# Altium integrated library TI Power Management Battery Management.IntLib: 949 symbols (part 41 of 62)
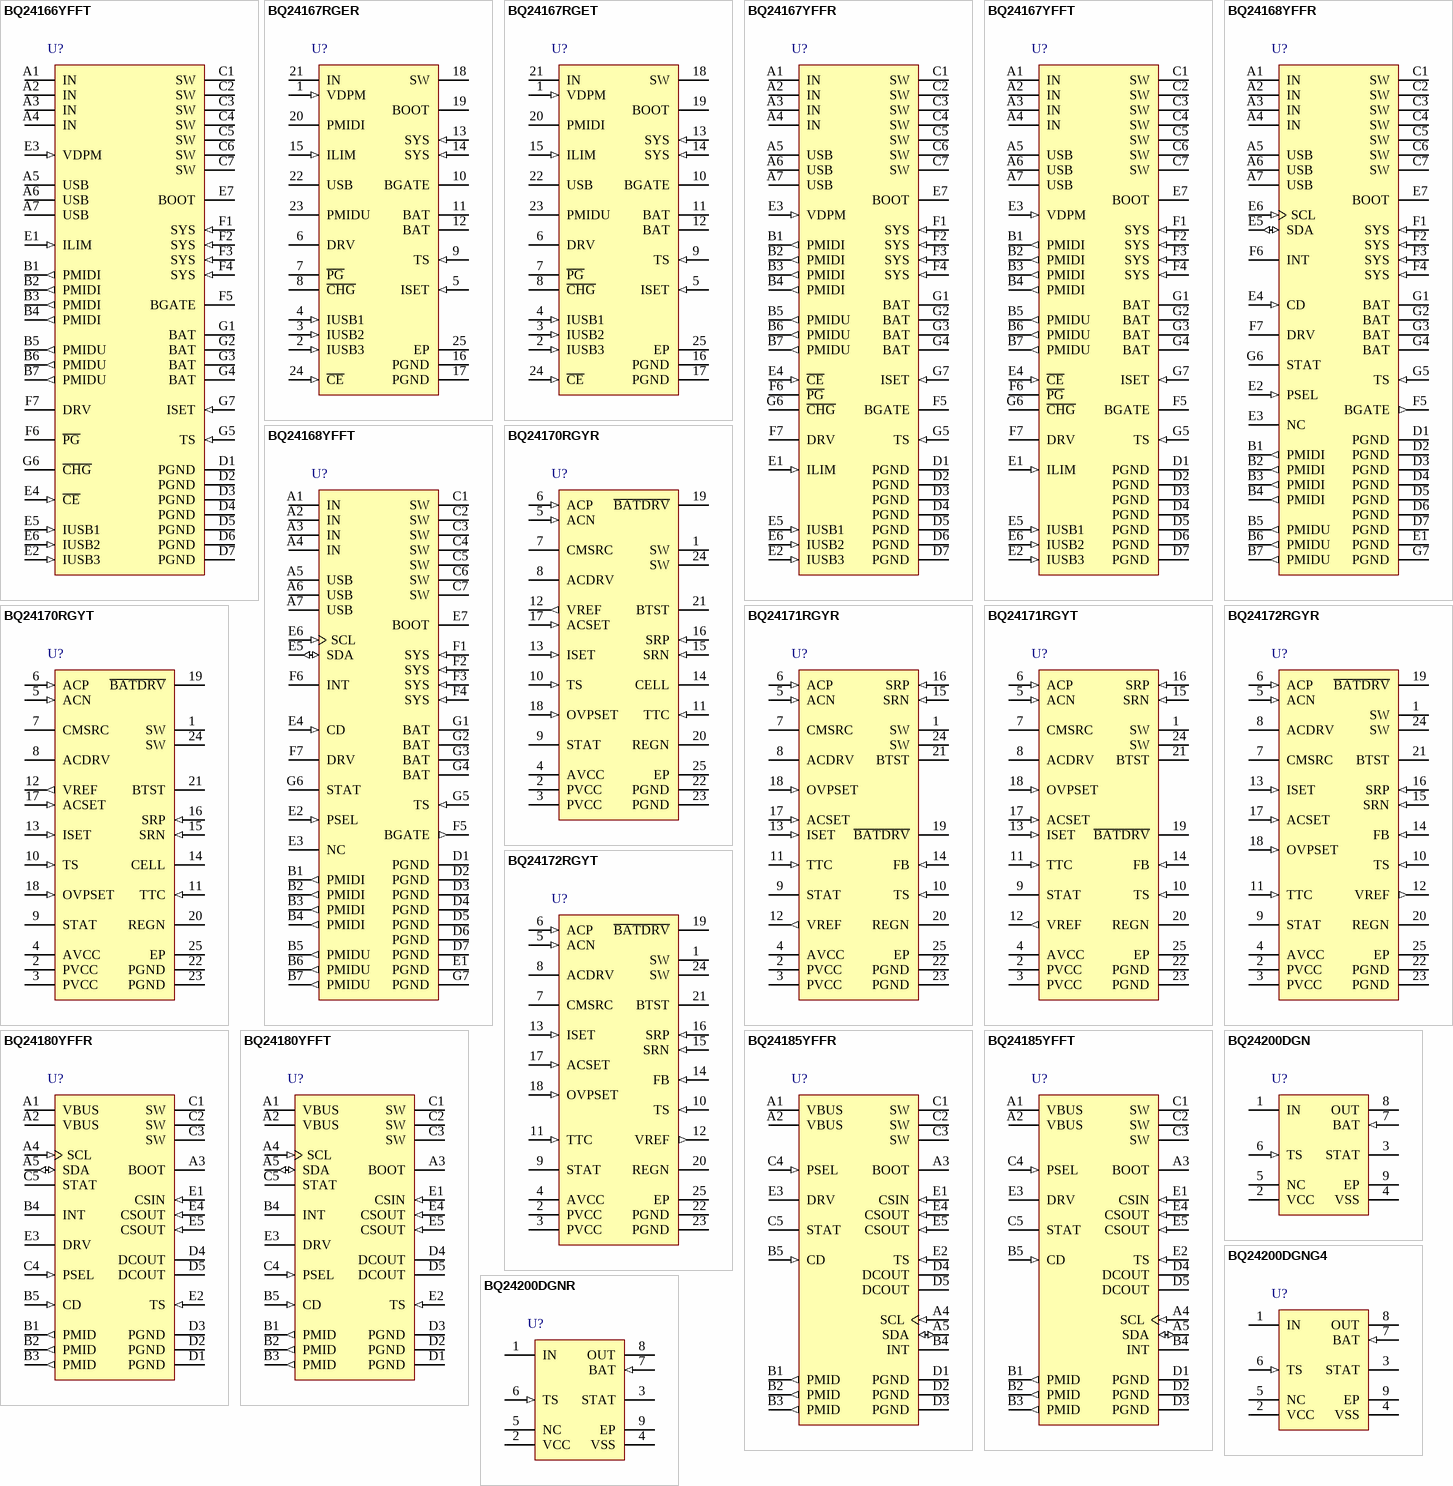
[diagram p74: symbols BQ24166YFFT to BQ24200DGNR]

## BQ24185YFFR
designator U?
Fully Integrated Switch-Mode One-Cell Li-Ion Charger with Full USB Compliance, 4 V, -40 to 85 degC, 25-pin DSBGA (YFF), Green (RoHS & no Sb/Br); PartNumber: BQ24185YFFR; Manufacturer: Texas Instruments; Lead Acid: N; SubFamily: Battery Charge Management; Vin(Min)(V): 4; DatasheetVersion: SLUSA43; PackageVersion: revAE, Nov-2011; PackageReference: YFF25-2200X2400DE; PackageDescription: 25-Ball Die-Size Ball Grid Array, 2.2 x 2.4 mm Body, 0.4 mm Pitch, Pb-Free; Supplier 1: Digi-Key; Supplier Part Number 1: 296-27956-2-ND; Supplier 2: Digi-Key; Supplier Part Number 2: 296-27956-1-ND; Supplier 3: Digi-Key; Supplier Part Number 3: 296-27956-6-ND; Supplier 4: Newark; Supplier Part Number 4: 27T2630; Supplier 5: Mouser; Supplier Part Number 5: 595-BQ24185YFFR; Eco-Plan: Green (RoHS & no Sb/Br); Li-Ion: N; Li-Polymer: N; NiCd: N; NiMH: N; Over Voltage Protection: N; Mounting Technology: Surface Mount; ComponentLink1Description: Datasheet; ComponentLink1URL: http://www.ti.com/general/docs/lit/getliterature.tsp?genericPartNumber=BQ24185&fileType=pdf
footprint YFF25-2200X2400DE (BGA, 25-Leads, Body 2.2x2.4mm, Pitch 0.4mm)
pins: A1 VBUS (power) "Charger Input Voltage. Connect to an input supply up to 16V. Bypass VBUS to PGND with a 1µF ceramic capacitor. During boost mode, VBUS is regulated to 5V at up to 300mA to power USB OTG peripherals.", A2 VBUS (power) "Charger Input Voltage. Connect to an input supply up to 16V. Bypass VBUS to PGND with a 1µF ceramic capacitor. During boost mode, VBUS is regulated to 5V at up to 300mA to power USB OTG peripherals.", A3 BOOT (power) "High-Side MOSFET Gate Driver Supply. Connect a 10nF ceramic capacitor (voltage rating above 10V) from BOOT pin to SW pin to supply the gate drive for the high side MOSFET.", A4 SCL (in) "I2C interface clock. Connect SCL to the logic rail through a 10kO resistor", A5 SDA (io) "I2C interface data. Connect SCL to the logic rail through a 10kO resistor", B1 PMID (out) "Connection Point Between Reverse Blocking MOSFET and High-Side Switching MOSFET. Bypass PMID to PGND with a minimum of 3.3µF ceramic capacitor. Use caution when connecting an external load to PMID. The PMID output is not (See Datasheet)", B2 PMID (out) "Connection Point Between Reverse Blocking MOSFET and High-Side Switching MOSFET. Bypass PMID to PGND with a minimum of 3.3µF ceramic capacitor. Use caution when connecting an external load to PMID. The PMID output is not (See Datasheet)", B3 PMID (out) "Connection Point Between Reverse Blocking MOSFET and High-Side Switching MOSFET. Bypass PMID to PGND with a minimum of 3.3µF ceramic capacitor. Use caution when connecting an external load to PMID. The PMID output is not (See Datasheet)", B4 INT (hiz) "Host Interface Status Output. INT is a low voltage open drain output used to signal charge status to the host processor. INT is pulled low during charging. When charging is complete or when charging is disabled, INT is high (See Datasheet)", B5 CD (in) "Hardware Disable Input. Connect CD to GND to enable charge. Drive CD high to disable charge and place the bq24185 into high impedance mode. Toggling CD resets the safety timer when in DEFAULT mode, but does not reset the (See Datasheet)", C1 SW (power) "Inductor Connection. Connect the switched side of the inductor to SW.", C2 SW (power) "Inductor Connection. Connect the switched side of the inductor to SW.", C3 SW (power) "Inductor Connection. Connect the switched side of the inductor to SW.", C4 PSEL (in) "USB Source Detection Input. Drive PSEL high to indicate a USB source is connected to the input and the PC mode default values should be used. When PSEL is high, the IC starts up with a 100mA input current limit. Drive PSEL (See Datasheet)", C5 STAT (hiz) "Status Output. STAT is an open drain output that is pulled low during charging. When charging is complete or when charging is disabled, STAT is high impedance. When a fault occurs, a 128µs pulse is sent out as an interrupt (See Datasheet)", D1 PGND (power) "Power ground. Connect to the ground plane for the circuit.", D2 PGND (power) "Power ground. Connect to the ground plane for the circuit.", D3 PGND (power) "Power ground. Connect to the ground plane for the circuit.", D4 DCOUT (power) "Accessory Power Output. DCOUT is connected to the battery through an internal pass FET. When enabled through I2C, DCOUT is connected to the battery. When disabled, DCOUT is high-impedance. Bypass DCOUT to PGND with at least (See Datasheet)", D5 DCOUT (power) "Accessory Power Output. DCOUT is connected to the battery through an internal pass FET. When enabled through I2C, DCOUT is connected to the battery. When disabled, DCOUT is high-impedance. Bypass DCOUT to PGND with at least (See Datasheet)", E1 CSIN (in) "Charge Current-Sense Input. Battery current is sensed via the voltage drop across an external sense resistor. Bypass CSIN to PGND with a 0.1µF ceramic capacitor.", E2 TS (in) "Battery Pack NTC Monitor. Connect TS to a 4.7kO NTC thermistor. During DEFAULT mode, when VTS >VCOLD or VTS<VHOT charging is suspended. If VHOT < VTS < VWARM charging current is reduced. The faults arereported by the I2C (See Datasheet)", E3 DRV (power) "Gate Drive Supply. DRV is the supply for the gate drive of the internal MOSFETs. Bypass DRV to PGND with a 1µF ceramic capacitor. DRV may be used to drive external loads up to 10mA. DRV is active whenever the input is (See Datasheet)", E4 CSOUT (in) "Battery voltage and Current Sense Input. Connect to the positive terminal of the battery pack. CSOUT is also the supply for the DCOUT output and VBUS during boost mode. Bypass CSOUT to PGND with 1µF ceramic capacitor.", E5 CSOUT (in) "Battery voltage and Current Sense Input. Connect to the positive terminal of the battery pack. CSOUT is also the supply for the DCOUT output and VBUS during boost mode. Bypass CSOUT to PGND with 1µF ceramic capacitor."

## BQ24185YFFT
designator U?
Fully Integrated Switch-Mode One-Cell Li-Ion Charger with Full USB Compliance, 4 V, -40 to 85 degC, 25-pin DSBGA (YFF), Green (RoHS & no Sb/Br); PartNumber: BQ24185YFFT; Manufacturer: Texas Instruments; Lead Acid: N; SubFamily: Battery Charge Management; Vin(Min)(V): 4; DatasheetVersion: SLUSA43; PackageVersion: revAE, Nov-2011; PackageReference: YFF25-2200X2400DE; PackageDescription: 25-Ball Die-Size Ball Grid Array, 2.2 x 2.4 mm Body, 0.4 mm Pitch, Pb-Free; Supplier 1: Digi-Key; Supplier Part Number 1: BQ24185YFFT-ND; Supplier 2: Newark; Supplier Part Number 2: 57T9700; Supplier 3: Mouser; Supplier Part Number 3: 595-BQ24185YFFT; Eco-Plan: Green (RoHS & no Sb/Br); Li-Ion: N; Li-Polymer: N; NiCd: N; NiMH: N; Over Voltage Protection: N; Mounting Technology: Surface Mount; ComponentLink1Description: Datasheet; ComponentLink1URL: http://www.ti.com/general/docs/lit/getliterature.tsp?genericPartNumber=BQ24185&fileType=pdf
footprint YFF25-2200X2400DE (BGA, 25-Leads, Body 2.2x2.4mm, Pitch 0.4mm)
pins: A1 VBUS (power) "Charger Input Voltage. Connect to an input supply up to 16V. Bypass VBUS to PGND with a 1µF ceramic capacitor. During boost mode, VBUS is regulated to 5V at up to 300mA to power USB OTG peripherals.", A2 VBUS (power) "Charger Input Voltage. Connect to an input supply up to 16V. Bypass VBUS to PGND with a 1µF ceramic capacitor. During boost mode, VBUS is regulated to 5V at up to 300mA to power USB OTG peripherals.", A3 BOOT (power) "High-Side MOSFET Gate Driver Supply. Connect a 10nF ceramic capacitor (voltage rating above 10V) from BOOT pin to SW pin to supply the gate drive for the high side MOSFET.", A4 SCL (in) "I2C interface clock. Connect SCL to the logic rail through a 10kO resistor", A5 SDA (io) "I2C interface data. Connect SCL to the logic rail through a 10kO resistor", B1 PMID (out) "Connection Point Between Reverse Blocking MOSFET and High-Side Switching MOSFET. Bypass PMID to PGND with a minimum of 3.3µF ceramic capacitor. Use caution when connecting an external load to PMID. The PMID output is not (See Datasheet)", B2 PMID (out) "Connection Point Between Reverse Blocking MOSFET and High-Side Switching MOSFET. Bypass PMID to PGND with a minimum of 3.3µF ceramic capacitor. Use caution when connecting an external load to PMID. The PMID output is not (See Datasheet)", B3 PMID (out) "Connection Point Between Reverse Blocking MOSFET and High-Side Switching MOSFET. Bypass PMID to PGND with a minimum of 3.3µF ceramic capacitor. Use caution when connecting an external load to PMID. The PMID output is not (See Datasheet)", B4 INT (hiz) "Host Interface Status Output. INT is a low voltage open drain output used to signal charge status to the host processor. INT is pulled low during charging. When charging is complete or when charging is disabled, INT is high (See Datasheet)", B5 CD (in) "Hardware Disable Input. Connect CD to GND to enable charge. Drive CD high to disable charge and place the bq24185 into high impedance mode. Toggling CD resets the safety timer when in DEFAULT mode, but does not reset the (See Datasheet)", C1 SW (power) "Inductor Connection. Connect the switched side of the inductor to SW.", C2 SW (power) "Inductor Connection. Connect the switched side of the inductor to SW.", C3 SW (power) "Inductor Connection. Connect the switched side of the inductor to SW.", C4 PSEL (in) "USB Source Detection Input. Drive PSEL high to indicate a USB source is connected to the input and the PC mode default values should be used. When PSEL is high, the IC starts up with a 100mA input current limit. Drive PSEL (See Datasheet)", C5 STAT (hiz) "Status Output. STAT is an open drain output that is pulled low during charging. When charging is complete or when charging is disabled, STAT is high impedance. When a fault occurs, a 128µs pulse is sent out as an interrupt (See Datasheet)", D1 PGND (power) "Power ground. Connect to the ground plane for the circuit.", D2 PGND (power) "Power ground. Connect to the ground plane for the circuit.", D3 PGND (power) "Power ground. Connect to the ground plane for the circuit.", D4 DCOUT (power) "Accessory Power Output. DCOUT is connected to the battery through an internal pass FET. When enabled through I2C, DCOUT is connected to the battery. When disabled, DCOUT is high-impedance. Bypass DCOUT to PGND with at least (See Datasheet)", D5 DCOUT (power) "Accessory Power Output. DCOUT is connected to the battery through an internal pass FET. When enabled through I2C, DCOUT is connected to the battery. When disabled, DCOUT is high-impedance. Bypass DCOUT to PGND with at least (See Datasheet)", E1 CSIN (in) "Charge Current-Sense Input. Battery current is sensed via the voltage drop across an external sense resistor. Bypass CSIN to PGND with a 0.1µF ceramic capacitor.", E2 TS (in) "Battery Pack NTC Monitor. Connect TS to a 4.7kO NTC thermistor. During DEFAULT mode, when VTS >VCOLD or VTS<VHOT charging is suspended. If VHOT < VTS < VWARM charging current is reduced. The faults arereported by the I2C (See Datasheet)", E3 DRV (power) "Gate Drive Supply. DRV is the supply for the gate drive of the internal MOSFETs. Bypass DRV to PGND with a 1µF ceramic capacitor. DRV may be used to drive external loads up to 10mA. DRV is active whenever the input is (See Datasheet)", E4 CSOUT (in) "Battery voltage and Current Sense Input. Connect to the positive terminal of the battery pack. CSOUT is also the supply for the DCOUT output and VBUS during boost mode. Bypass CSOUT to PGND with 1µF ceramic capacitor.", E5 CSOUT (in) "Battery voltage and Current Sense Input. Connect to the positive terminal of the battery pack. CSOUT is also the supply for the DCOUT output and VBUS during boost mode. Bypass CSOUT to PGND with 1µF ceramic capacitor."

## BQ24200DGN
designator U?
500 mA, 4.2 V Li-Ion Charger for Current-Limited App. with Temp Sense in MSOP-8, 2.8 V, -40 to 85 degC, 8-pin MSOP-PowerPAD (DGN), Green (RoHS & no Sb/Br); PartNumber: BQ24200DGN; Manufacturer: Texas Instruments; Lead Acid: N; Li-Ion: Y; SubFamily: Battery Charge Management; Vin(Min)(V): 2.8; DatasheetVersion: SLUS501C; PackageVersion: revF, May-2011; PackageReference: DGN8-1760X1425TP; PackageDescription: 8-Pin PowerPAD Plastic Small Outline Package 3 x 3 mm Body ,0.65 mm Pitch, Exposed Pad; Supplier 1: Digi-Key; Supplier Part Number 1: 296-12409-5-ND; Supplier 2: Farnell; Supplier Part Number 2: 8407924; Supplier 3: Newark; Supplier Part Number 3: 74C7650; Supplier 4: Mouser; Supplier Part Number 4: 595-BQ24200DGN; Eco-Plan: Green (RoHS & no Sb/Br); Li-Polymer: Y; NiCd: N; NiMH: N; Over Voltage Protection: N; Mounting Technology: Surface Mount; Code_JEDEC: MO-187-AA-T; ComponentLink1Description: Datasheet; ComponentLink1URL: http://www.ti.com/general/docs/lit/getliterature.tsp?genericPartNumber=BQ24200&fileType=pdf
footprint DGN8-1760X1425TP_N (TSOP, 8-Leads, Body 3x3mm, Pitch 0.65mm, Thermal Pad 1.89x1.57mm, IPC Medium Density)
footprint DGN8-1760X1425TP_L (TSOP, 8-Leads, Body 3x3mm, Pitch 0.65mm, Thermal Pad 1.89x1.57mm, IPC High Density)
footprint DGN8-1760X1425TP_M (TSOP, 8-Leads, Body 3x3mm, Pitch 0.65mm, Thermal Pad 1.89x1.57mm, IPC Low Density)
pins: 1 IN (power) "Charge input voltage", 2 VCC (power) "VCC input", 3 STAT (hiz) "Charge status output", 4 VSS (power) "Ground input", 5 NC "No connection. Must be left floating", 6 TS (in) "Temperature sense input", 7 BAT (in) "Battery voltage sense input", 8 OUT (power) "Charge current output", 9 EP (power) "Exposed Pad"

## BQ24200DGNG4
designator U?
500 mA, 4.2 V Li-Ion Charger for Current-Limited App. with Temp Sense in MSOP-8, 2.8 V, -40 to 85 degC, 8-pin MSOP-PowerPAD (DGN), Green (RoHS & no Sb/Br); PartNumber: BQ24200DGNG4; Manufacturer: Texas Instruments; Lead Acid: N; Li-Ion: Y; SubFamily: Battery Charge Management; Vin(Min)(V): 2.8; DatasheetVersion: SLUS501C; PackageVersion: revF, May-2011; PackageReference: DGN8-1760X1425TP; PackageDescription: 8-Pin PowerPAD Plastic Small Outline Package 3 x 3 mm Body ,0.65 mm Pitch, Exposed Pad; Supplier 1: Digi-Key; Supplier Part Number 1: BQ24200DGNG4-ND; Supplier 2: Newark; Supplier Part Number 2: 24K4392; Supplier 3: Mouser; Supplier Part Number 3: 595-BQ24200DGNG4; Eco-Plan: Green (RoHS & no Sb/Br); Li-Polymer: Y; NiCd: N; NiMH: N; Over Voltage Protection: N; Mounting Technology: Surface Mount; Code_JEDEC: MO-187-AA-T; ComponentLink1Description: Datasheet; ComponentLink1URL: http://www.ti.com/general/docs/lit/getliterature.tsp?genericPartNumber=BQ24200&fileType=pdf
footprint DGN8-1760X1425TP_N (TSOP, 8-Leads, Body 3x3mm, Pitch 0.65mm, Thermal Pad 1.89x1.57mm, IPC Medium Density)
footprint DGN8-1760X1425TP_L (TSOP, 8-Leads, Body 3x3mm, Pitch 0.65mm, Thermal Pad 1.89x1.57mm, IPC High Density)
footprint DGN8-1760X1425TP_M (TSOP, 8-Leads, Body 3x3mm, Pitch 0.65mm, Thermal Pad 1.89x1.57mm, IPC Low Density)
pins: 1 IN (power) "Charge input voltage", 2 VCC (power) "VCC input", 3 STAT (hiz) "Charge status output", 4 VSS (power) "Ground input", 5 NC "No connection. Must be left floating", 6 TS (in) "Temperature sense input", 7 BAT (in) "Battery voltage sense input", 8 OUT (power) "Charge current output", 9 EP (power) "Exposed Pad"

## BQ24200DGNR
designator U?
500 mA, 4.2 V Li-Ion Charger for Current-Limited App. with Temp Sense in MSOP-8, 2.8 V, -40 to 85 degC, 8-pin MSOP-PowerPAD (DGN), Green (RoHS & no Sb/Br); PartNumber: BQ24200DGNR; Manufacturer: Texas Instruments; Lead Acid: N; Li-Ion: Y; SubFamily: Battery Charge Management; Vin(Min)(V): 2.8; DatasheetVersion: SLUS501C; PackageVersion: revF, May-2011; PackageReference: DGN8-1760X1425TP; PackageDescription: 8-Pin PowerPAD Plastic Small Outline Package 3 x 3 mm Body ,0.65 mm Pitch, Exposed Pad; Supplier 1: Digi-Key; Supplier Part Number 1: BQ24200DGNR-ND; Supplier 2: Newark; Supplier Part Number 2: 74C7651; Supplier 3: Mouser; Supplier Part Number 3: 595-BQ24200DGNR; Eco-Plan: Green (RoHS & no Sb/Br); Li-Polymer: Y; NiCd: N; NiMH: N; Over Voltage Protection: N; Mounting Technology: Surface Mount; Code_JEDEC: MO-187-AA-T; ComponentLink1Description: Datasheet; ComponentLink1URL: http://www.ti.com/general/docs/lit/getliterature.tsp?genericPartNumber=BQ24200&fileType=pdf
footprint DGN8-1760X1425TP_N (TSOP, 8-Leads, Body 3x3mm, Pitch 0.65mm, Thermal Pad 1.89x1.57mm, IPC Medium Density)
footprint DGN8-1760X1425TP_L (TSOP, 8-Leads, Body 3x3mm, Pitch 0.65mm, Thermal Pad 1.89x1.57mm, IPC High Density)
footprint DGN8-1760X1425TP_M (TSOP, 8-Leads, Body 3x3mm, Pitch 0.65mm, Thermal Pad 1.89x1.57mm, IPC Low Density)
pins: 1 IN (power) "Charge input voltage", 2 VCC (power) "VCC input", 3 STAT (hiz) "Charge status output", 4 VSS (power) "Ground input", 5 NC "No connection. Must be left floating", 6 TS (in) "Temperature sense input", 7 BAT (in) "Battery voltage sense input", 8 OUT (power) "Charge current output", 9 EP (power) "Exposed Pad"

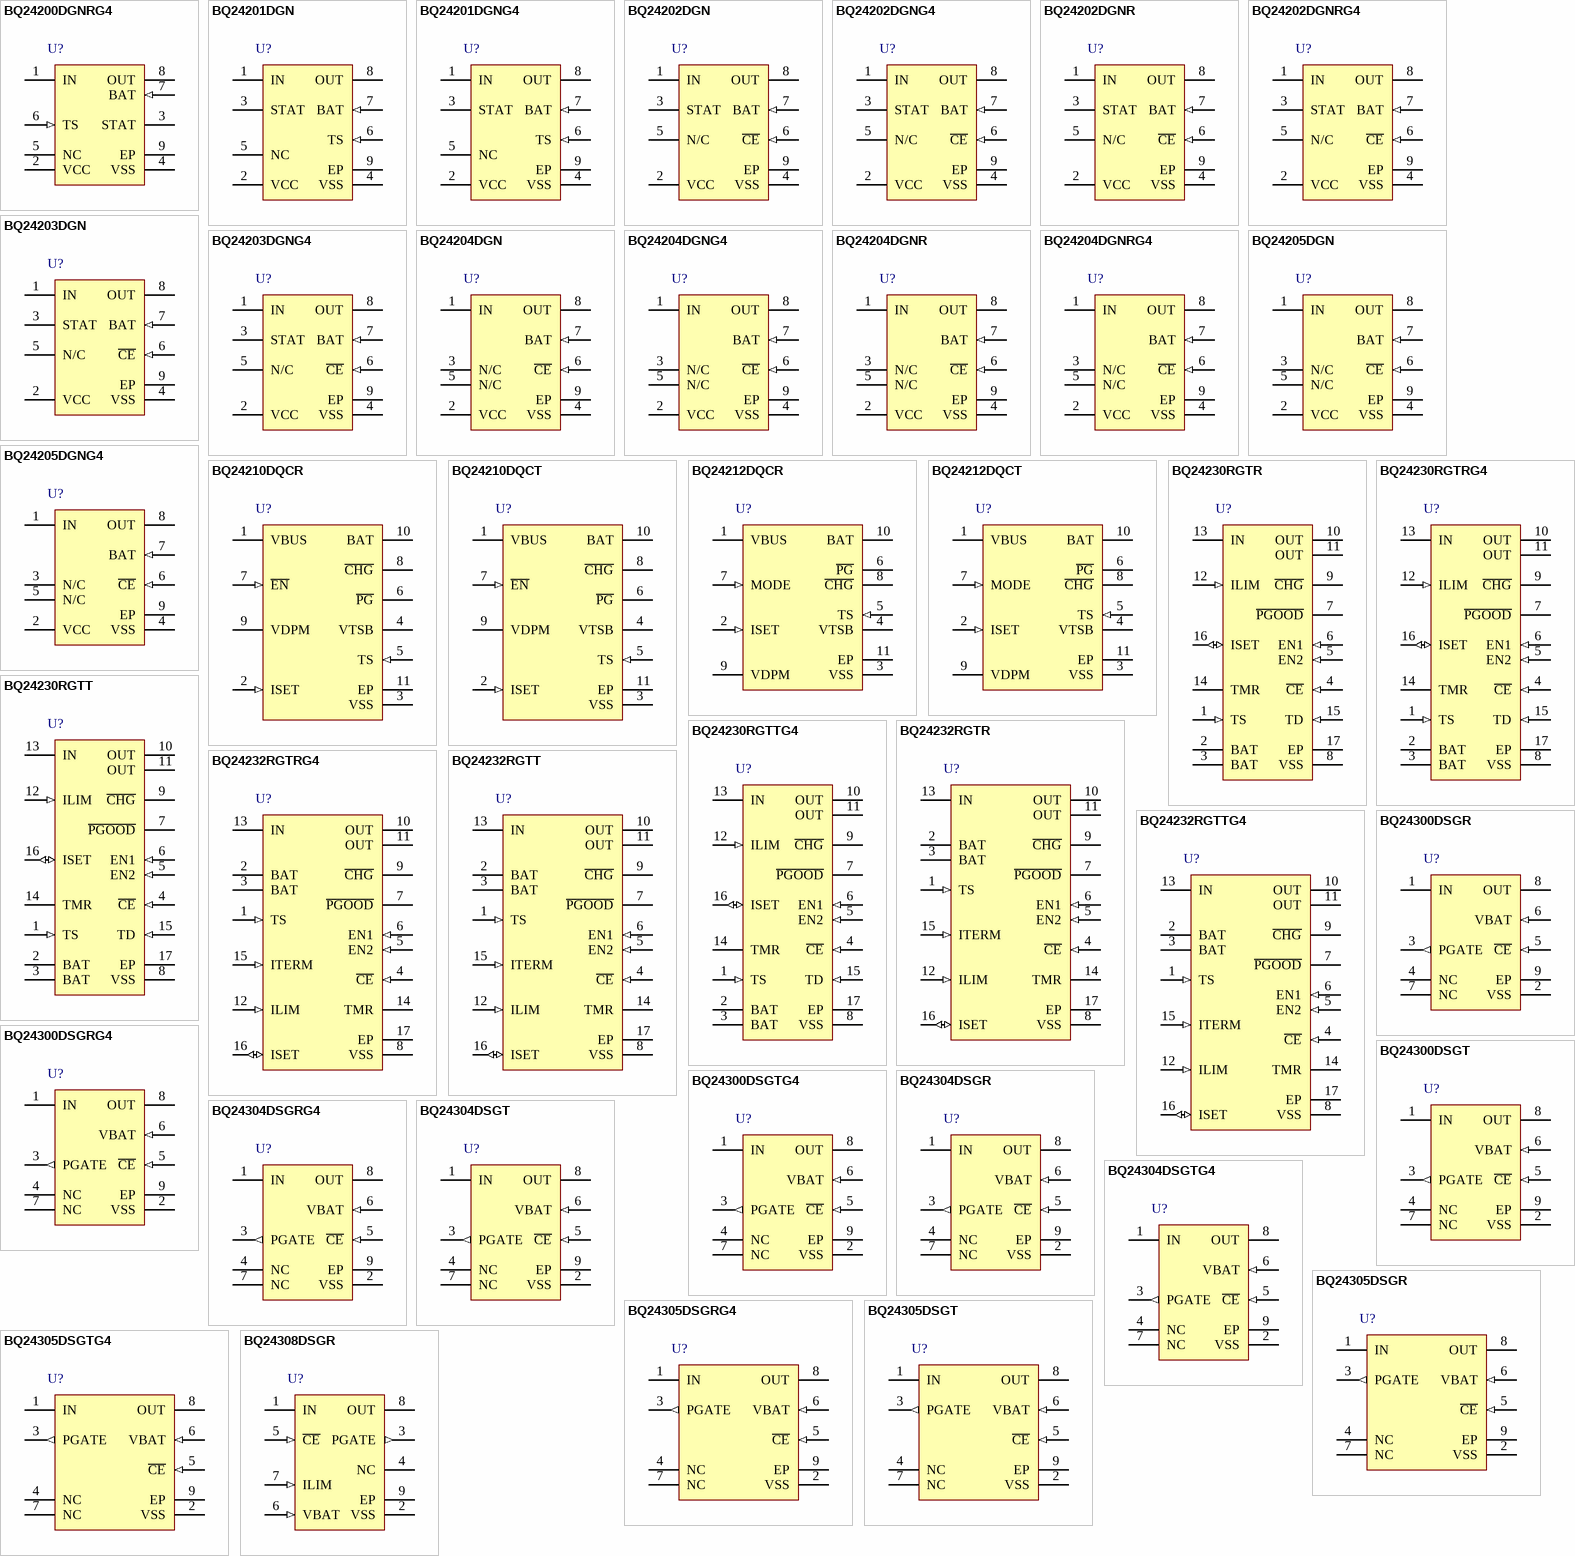
[diagram p22: symbols BQ24200DGNRG4 to BQ24308DSGR]

## BQ24200DGNRG4
designator U?
500 mA, 4.2 V Li-Ion Charger for Current-Limited App. with Temp Sense in MSOP-8, 2.8 V, -40 to 85 degC, 8-pin MSOP-PowerPAD (DGN), Green (RoHS & no Sb/Br); PartNumber: BQ24200DGNRG4; Manufacturer: Texas Instruments; Lead Acid: N; Li-Ion: Y; SubFamily: Battery Charge Management; Vin(Min)(V): 2.8; DatasheetVersion: SLUS501C; PackageVersion: revF, May-2011; PackageReference: DGN8-1760X1425TP; PackageDescription: 8-Pin PowerPAD Plastic Small Outline Package 3 x 3 mm Body ,0.65 mm Pitch, Exposed Pad; Supplier 1: Digi-Key; Supplier Part Number 1: BQ24200DGNRG4-ND; Supplier 2: Newark; Supplier Part Number 2: 71J3426; Supplier 3: Mouser; Supplier Part Number 3: 595-BQ24200DGNRG4; Eco-Plan: Green (RoHS & no Sb/Br); Li-Polymer: Y; NiCd: N; NiMH: N; Over Voltage Protection: N; Mounting Technology: Surface Mount; Code_JEDEC: MO-187-AA-T; ComponentLink1Description: Datasheet; ComponentLink1URL: http://www.ti.com/general/docs/lit/getliterature.tsp?genericPartNumber=BQ24200&fileType=pdf
footprint DGN8-1760X1425TP_N (TSOP, 8-Leads, Body 3x3mm, Pitch 0.65mm, Thermal Pad 1.89x1.57mm, IPC Medium Density)
footprint DGN8-1760X1425TP_L (TSOP, 8-Leads, Body 3x3mm, Pitch 0.65mm, Thermal Pad 1.89x1.57mm, IPC High Density)
footprint DGN8-1760X1425TP_M (TSOP, 8-Leads, Body 3x3mm, Pitch 0.65mm, Thermal Pad 1.89x1.57mm, IPC Low Density)
pins: 1 IN (power) "Charge input voltage", 2 VCC (power) "VCC input", 3 STAT (hiz) "Charge status output", 4 VSS (power) "Ground input", 5 NC "No connection. Must be left floating", 6 TS (in) "Temperature sense input", 7 BAT (in) "Battery voltage sense input", 8 OUT (power) "Charge current output", 9 EP (power) "Exposed Pad"

## BQ24201DGN
designator U?
500 mA, 4.1 V Li-Ion Charger for Current-Limited App. with Temp Sense in MSOP-8, 2.8 V, -40 to 85 degC, 8-pin MSOP-PowerPAD (DGN), Green (RoHS & no Sb/Br); PartNumber: BQ24201DGN; Manufacturer: Texas Instruments; Lead Acid: N; Li-Ion: Y; SubFamily: Battery Charge Management; Vin(Min)(V): 2.8; DatasheetVersion: SLUS501C; PackageVersion: revF, May-2011; PackageReference: DGN8-1760X1425TP; PackageDescription: 8-Pin PowerPAD Plastic Small Outline Package 3 x 3 mm Body ,0.65 mm Pitch, Exposed Pad; Supplier 1: Digi-Key; Supplier Part Number 1: 296-12410-5-ND; Supplier 2: Newark; Supplier Part Number 2: 74C7653; Supplier 3: Mouser; Supplier Part Number 3: 595-BQ24201DGN; Eco-Plan: Green (RoHS & no Sb/Br); Li-Polymer: Y; NiCd: N; NiMH: N; Over Voltage Protection: N; Mounting Technology: Surface Mount; Code_JEDEC: MO-187-AA-T; ComponentLink1Description: Datasheet; ComponentLink1URL: http://www.ti.com/general/docs/lit/getliterature.tsp?genericPartNumber=BQ24201&fileType=pdf
footprint DGN8-1760X1425TP_N (TSOP, 8-Leads, Body 3x3mm, Pitch 0.65mm, Thermal Pad 1.89x1.57mm, IPC Medium Density)
footprint DGN8-1760X1425TP_L (TSOP, 8-Leads, Body 3x3mm, Pitch 0.65mm, Thermal Pad 1.89x1.57mm, IPC High Density)
footprint DGN8-1760X1425TP_M (TSOP, 8-Leads, Body 3x3mm, Pitch 0.65mm, Thermal Pad 1.89x1.57mm, IPC Low Density)
pins: 1 IN (power) "Charge input voltage", 2 VCC (power) "VCC input", 3 STAT (hiz) "Charge status output", 4 VSS (power) "Ground input", 5 NC "No connection. Must be left floating", 6 TS (in) "Temperature sense input", 7 BAT (in) "Battery voltage sense input", 8 OUT (power) "Charge current output", 9 EP "Exposed pad"

## BQ24201DGNG4
designator U?
500 mA, 4.1 V Li-Ion Charger for Current-Limited App. with Temp Sense in MSOP-8, 2.8 V, -40 to 85 degC, 8-pin MSOP-PowerPAD (DGN), Green (RoHS & no Sb/Br); PartNumber: BQ24201DGNG4; Manufacturer: Texas Instruments; Lead Acid: N; Li-Ion: Y; SubFamily: Battery Charge Management; Vin(Min)(V): 2.8; DatasheetVersion: SLUS501C; PackageVersion: revF, May-2011; PackageReference: DGN8-1760X1425TP; PackageDescription: 8-Pin PowerPAD Plastic Small Outline Package 3 x 3 mm Body ,0.65 mm Pitch, Exposed Pad; Supplier 1: Digi-Key; Supplier Part Number 1: BQ24201DGNG4-ND; Supplier 2: Newark; Supplier Part Number 2: 99K1810; Supplier 3: Mouser; Supplier Part Number 3: 595-BQ24201DGNG4; Eco-Plan: Green (RoHS & no Sb/Br); Li-Polymer: Y; NiCd: N; NiMH: N; Over Voltage Protection: N; Mounting Technology: Surface Mount; Code_JEDEC: MO-187-AA-T; ComponentLink1Description: Datasheet; ComponentLink1URL: http://www.ti.com/general/docs/lit/getliterature.tsp?genericPartNumber=BQ24201&fileType=pdf
footprint DGN8-1760X1425TP_N (TSOP, 8-Leads, Body 3x3mm, Pitch 0.65mm, Thermal Pad 1.89x1.57mm, IPC Medium Density)
footprint DGN8-1760X1425TP_L (TSOP, 8-Leads, Body 3x3mm, Pitch 0.65mm, Thermal Pad 1.89x1.57mm, IPC High Density)
footprint DGN8-1760X1425TP_M (TSOP, 8-Leads, Body 3x3mm, Pitch 0.65mm, Thermal Pad 1.89x1.57mm, IPC Low Density)
pins: 1 IN (power) "Charge input voltage", 2 VCC (power) "VCC input", 3 STAT (hiz) "Charge status output", 4 VSS (power) "Ground input", 5 NC "No connection. Must be left floating", 6 TS (in) "Temperature sense input", 7 BAT (in) "Battery voltage sense input", 8 OUT (power) "Charge current output", 9 EP "Exposed pad"

## BQ24202DGN
designator U?
500 mA, 4.2 V Li-Ion Charger for Current-Limited App. with Charge Status in MSOP-8, 2.8 V, -40 to 85 degC, 8-pin MSOP-PowerPAD (DGN), Green (RoHS & no Sb/Br); PartNumber: BQ24202DGN; Manufacturer: Texas Instruments; Lead Acid: N; Li-Ion: Y; SubFamily: Battery Charge Management; Vin(Min)(V): 2.8; DatasheetVersion: SLUS501C; PackageVersion: revF, May-2011; PackageReference: DGN8-1760X1425TP; PackageDescription: 8-Pin PowerPAD Plastic Small Outline Package 3 x 3 mm Body ,0.65 mm Pitch, Exposed Pad; Supplier 1: Digi-Key; Supplier Part Number 1: 296-12411-5-ND; Supplier 2: Farnell; Supplier Part Number 2: 8407932; Supplier 3: Newark; Supplier Part Number 3: 74C7655; Supplier 4: Mouser; Supplier Part Number 4: 595-BQ24202DGN; Eco-Plan: Green (RoHS & no Sb/Br); Li-Polymer: Y; NiCd: N; NiMH: N; Over Voltage Protection: N; Mounting Technology: Surface Mount; Code_JEDEC: MO-187-AA-T; ComponentLink1Description: Datasheet; ComponentLink1URL: http://www.ti.com/general/docs/lit/getliterature.tsp?genericPartNumber=BQ24202&fileType=pdf
footprint DGN8-1760X1425TP_N (TSOP, 8-Leads, Body 3x3mm, Pitch 0.65mm, Thermal Pad 1.89x1.57mm, IPC Medium Density)
footprint DGN8-1760X1425TP_L (TSOP, 8-Leads, Body 3x3mm, Pitch 0.65mm, Thermal Pad 1.89x1.57mm, IPC High Density)
footprint DGN8-1760X1425TP_M (TSOP, 8-Leads, Body 3x3mm, Pitch 0.65mm, Thermal Pad 1.89x1.57mm, IPC Low Density)
pins: 1 IN (power) "Charge input voltage", 2 VCC (power) "VCC input", 3 STAT (hiz) "Charge status output", 4 VSS (power) "Ground input", 5 N/C "No connection. Must be left floating", 6 ~{CE} (in) "Charge enable input (active low)", 7 BAT (in) "Battery voltage sense input", 8 OUT (power) "Charge current output", 9 EP "Exposed pad"

## BQ24202DGNG4
designator U?
500 mA, 4.2 V Li-Ion Charger for Current-Limited App. with Charge Status in MSOP-8, 2.8 V, -40 to 85 degC, 8-pin MSOP-PowerPAD (DGN), Green (RoHS & no Sb/Br); PartNumber: BQ24202DGNG4; Manufacturer: Texas Instruments; Lead Acid: N; Li-Ion: Y; SubFamily: Battery Charge Management; Vin(Min)(V): 2.8; DatasheetVersion: SLUS501C; PackageVersion: revF, May-2011; PackageReference: DGN8-1760X1425TP; PackageDescription: 8-Pin PowerPAD Plastic Small Outline Package 3 x 3 mm Body ,0.65 mm Pitch, Exposed Pad; Supplier 1: Digi-Key; Supplier Part Number 1: BQ24202DGNG4-ND; Supplier 2: Newark; Supplier Part Number 2: 24K4394; Supplier 3: Mouser; Supplier Part Number 3: 595-BQ24202DGNG4; Eco-Plan: Green (RoHS & no Sb/Br); Li-Polymer: Y; NiCd: N; NiMH: N; Over Voltage Protection: N; Mounting Technology: Surface Mount; Code_JEDEC: MO-187-AA-T; ComponentLink1Description: Datasheet; ComponentLink1URL: http://www.ti.com/general/docs/lit/getliterature.tsp?genericPartNumber=BQ24202&fileType=pdf
footprint DGN8-1760X1425TP_N (TSOP, 8-Leads, Body 3x3mm, Pitch 0.65mm, Thermal Pad 1.89x1.57mm, IPC Medium Density)
footprint DGN8-1760X1425TP_L (TSOP, 8-Leads, Body 3x3mm, Pitch 0.65mm, Thermal Pad 1.89x1.57mm, IPC High Density)
footprint DGN8-1760X1425TP_M (TSOP, 8-Leads, Body 3x3mm, Pitch 0.65mm, Thermal Pad 1.89x1.57mm, IPC Low Density)
pins: 1 IN (power) "Charge input voltage", 2 VCC (power) "VCC input", 3 STAT (hiz) "Charge status output", 4 VSS (power) "Ground input", 5 N/C "No connection. Must be left floating", 6 ~{CE} (in) "Charge enable input (active low)", 7 BAT (in) "Battery voltage sense input", 8 OUT (power) "Charge current output", 9 EP "Exposed pad"

## BQ24202DGNR
designator U?
500 mA, 4.2 V Li-Ion Charger for Current-Limited App. with Charge Status in MSOP-8, 2.8 V, -40 to 85 degC, 8-pin MSOP-PowerPAD (DGN), Green (RoHS & no Sb/Br); PartNumber: BQ24202DGNR; Manufacturer: Texas Instruments; Lead Acid: N; Li-Ion: Y; SubFamily: Battery Charge Management; Vin(Min)(V): 2.8; DatasheetVersion: SLUS501C; PackageVersion: revF, May-2011; PackageReference: DGN8-1760X1425TP; PackageDescription: 8-Pin PowerPAD Plastic Small Outline Package 3 x 3 mm Body ,0.65 mm Pitch, Exposed Pad; Supplier 1: Digi-Key; Supplier Part Number 1: BQ24202DGNR-ND; Supplier 2: Newark; Supplier Part Number 2: 74C7656; Supplier 3: Mouser; Supplier Part Number 3: 595-BQ24202DGNR; Eco-Plan: Green (RoHS & no Sb/Br); Li-Polymer: Y; NiCd: N; NiMH: N; Over Voltage Protection: N; Mounting Technology: Surface Mount; Code_JEDEC: MO-187-AA-T; ComponentLink1Description: Datasheet; ComponentLink1URL: http://www.ti.com/general/docs/lit/getliterature.tsp?genericPartNumber=BQ24202&fileType=pdf
footprint DGN8-1760X1425TP_N (TSOP, 8-Leads, Body 3x3mm, Pitch 0.65mm, Thermal Pad 1.89x1.57mm, IPC Medium Density)
footprint DGN8-1760X1425TP_L (TSOP, 8-Leads, Body 3x3mm, Pitch 0.65mm, Thermal Pad 1.89x1.57mm, IPC High Density)
footprint DGN8-1760X1425TP_M (TSOP, 8-Leads, Body 3x3mm, Pitch 0.65mm, Thermal Pad 1.89x1.57mm, IPC Low Density)
pins: 1 IN (power) "Charge input voltage", 2 VCC (power) "VCC input", 3 STAT (hiz) "Charge status output", 4 VSS (power) "Ground input", 5 N/C "No connection. Must be left floating", 6 ~{CE} (in) "Charge enable input (active low)", 7 BAT (in) "Battery voltage sense input", 8 OUT (power) "Charge current output", 9 EP "Exposed pad"

## BQ24202DGNRG4
designator U?
500 mA, 4.2 V Li-Ion Charger for Current-Limited App. with Charge Status in MSOP-8, 2.8 V, -40 to 85 degC, 8-pin MSOP-PowerPAD (DGN), Green (RoHS & no Sb/Br); PartNumber: BQ24202DGNRG4; Manufacturer: Texas Instruments; Lead Acid: N; Li-Ion: Y; SubFamily: Battery Charge Management; Vin(Min)(V): 2.8; DatasheetVersion: SLUS501C; PackageVersion: revF, May-2011; PackageReference: DGN8-1760X1425TP; PackageDescription: 8-Pin PowerPAD Plastic Small Outline Package 3 x 3 mm Body ,0.65 mm Pitch, Exposed Pad; Supplier 1: Digi-Key; Supplier Part Number 1: BQ24202DGNRG4-ND; Supplier 2: Newark; Supplier Part Number 2: 21M9459; Supplier 3: Mouser; Supplier Part Number 3: 595-BQ24202DGNRG4; Eco-Plan: Green (RoHS & no Sb/Br); Li-Polymer: Y; NiCd: N; NiMH: N; Over Voltage Protection: N; Mounting Technology: Surface Mount; Code_JEDEC: MO-187-AA-T; ComponentLink1Description: Datasheet; ComponentLink1URL: http://www.ti.com/general/docs/lit/getliterature.tsp?genericPartNumber=BQ24202&fileType=pdf
footprint DGN8-1760X1425TP_N (TSOP, 8-Leads, Body 3x3mm, Pitch 0.65mm, Thermal Pad 1.89x1.57mm, IPC Medium Density)
footprint DGN8-1760X1425TP_L (TSOP, 8-Leads, Body 3x3mm, Pitch 0.65mm, Thermal Pad 1.89x1.57mm, IPC High Density)
footprint DGN8-1760X1425TP_M (TSOP, 8-Leads, Body 3x3mm, Pitch 0.65mm, Thermal Pad 1.89x1.57mm, IPC Low Density)
pins: 1 IN (power) "Charge input voltage", 2 VCC (power) "VCC input", 3 STAT (hiz) "Charge status output", 4 VSS (power) "Ground input", 5 N/C "No connection. Must be left floating", 6 ~{CE} (in) "Charge enable input (active low)", 7 BAT (in) "Battery voltage sense input", 8 OUT (power) "Charge current output", 9 EP "Exposed pad"

## BQ24203DGN
designator U?
500 mA, 4.1 V Li-Ion Charger for Current-Limited App. with Charge Status in MSOP-8, 2.8 V, -40 to 85 degC, 8-pin MSOP-PowerPAD (DGN), Green (RoHS & no Sb/Br); PartNumber: BQ24203DGN; Manufacturer: Texas Instruments; Lead Acid: N; Li-Ion: Y; SubFamily: Battery Charge Management; Vin(Min)(V): 2.8; DatasheetVersion: SLUS501C; PackageVersion: revF, May-2011; PackageReference: DGN8-1760X1425TP; PackageDescription: 8-Pin PowerPAD Plastic Small Outline Package 3 x 3 mm Body ,0.65 mm Pitch, Exposed Pad; Supplier 1: Digi-Key; Supplier Part Number 1: 296-12412-5-ND; Supplier 2: Farnell; Supplier Part Number 2: 1407133; Supplier 3: Newark; Supplier Part Number 3: 74C7657; Supplier 4: Mouser; Supplier Part Number 4: 595-BQ24203DGN; Eco-Plan: Green (RoHS & no Sb/Br); Li-Polymer: Y; NiCd: N; NiMH: N; Over Voltage Protection: N; Mounting Technology: Surface Mount; Code_JEDEC: MO-187-AA-T; ComponentLink1Description: Datasheet; ComponentLink1URL: http://www.ti.com/general/docs/lit/getliterature.tsp?genericPartNumber=BQ24203&fileType=pdf
footprint DGN8-1760X1425TP_N (TSOP, 8-Leads, Body 3x3mm, Pitch 0.65mm, Thermal Pad 1.89x1.57mm, IPC Medium Density)
footprint DGN8-1760X1425TP_L (TSOP, 8-Leads, Body 3x3mm, Pitch 0.65mm, Thermal Pad 1.89x1.57mm, IPC High Density)
footprint DGN8-1760X1425TP_M (TSOP, 8-Leads, Body 3x3mm, Pitch 0.65mm, Thermal Pad 1.89x1.57mm, IPC Low Density)
pins: 1 IN (power) "Charge input voltage", 2 VCC (power) "VCC input", 3 STAT (hiz) "Charge status output", 4 VSS (power) "Ground input", 5 N/C "No connection. Must be left floating", 6 ~{CE} (in) "Charge enable input (active low)", 7 BAT (in) "Battery voltage sense input", 8 OUT (power) "Charge current output", 9 EP "Exposed pad"

## BQ24203DGNG4
designator U?
500 mA, 4.1 V Li-Ion Charger for Current-Limited App. with Charge Status in MSOP-8, 2.8 V, -40 to 85 degC, 8-pin MSOP-PowerPAD (DGN), Green (RoHS & no Sb/Br); PartNumber: BQ24203DGNG4; Manufacturer: Texas Instruments; Lead Acid: N; Li-Ion: Y; SubFamily: Battery Charge Management; Vin(Min)(V): 2.8; DatasheetVersion: SLUS501C; PackageVersion: revF, May-2011; PackageReference: DGN8-1760X1425TP; PackageDescription: 8-Pin PowerPAD Plastic Small Outline Package 3 x 3 mm Body ,0.65 mm Pitch, Exposed Pad; Supplier 1: Digi-Key; Supplier Part Number 1: BQ24203DGNG4-ND; Supplier 2: Newark; Supplier Part Number 2: 99K1811; Supplier 3: Mouser; Supplier Part Number 3: 595-BQ24203DGNG4; Eco-Plan: Green (RoHS & no Sb/Br); Li-Polymer: Y; NiCd: N; NiMH: N; Over Voltage Protection: N; Mounting Technology: Surface Mount; Code_JEDEC: MO-187-AA-T; ComponentLink1Description: Datasheet; ComponentLink1URL: http://www.ti.com/general/docs/lit/getliterature.tsp?genericPartNumber=BQ24203&fileType=pdf
footprint DGN8-1760X1425TP_N (TSOP, 8-Leads, Body 3x3mm, Pitch 0.65mm, Thermal Pad 1.89x1.57mm, IPC Medium Density)
footprint DGN8-1760X1425TP_L (TSOP, 8-Leads, Body 3x3mm, Pitch 0.65mm, Thermal Pad 1.89x1.57mm, IPC High Density)
footprint DGN8-1760X1425TP_M (TSOP, 8-Leads, Body 3x3mm, Pitch 0.65mm, Thermal Pad 1.89x1.57mm, IPC Low Density)
pins: 1 IN (power) "Charge input voltage", 2 VCC (power) "VCC input", 3 STAT (hiz) "Charge status output", 4 VSS (power) "Ground input", 5 N/C "No connection. Must be left floating", 6 ~{CE} (in) "Charge enable input (active low)", 7 BAT (in) "Battery voltage sense input", 8 OUT (power) "Charge current output", 9 EP "Exposed pad"

## BQ24204DGN
designator U?
500 mA, 4.2 V Li-Ion Charger for Current-Limited App. in MSOP-8, 2.8 V, -40 to 85 degC, 8-pin MSOP-PowerPAD (DGN), Green (RoHS & no Sb/Br); PartNumber: BQ24204DGN; Manufacturer: Texas Instruments; Lead Acid: N; Li-Ion: Y; SubFamily: Battery Charge Management; Vin(Min)(V): 2.8; DatasheetVersion: SLUS501C; PackageVersion: revF, May-2011; PackageReference: DGN8-1760X1425TP; PackageDescription: 8-Pin PowerPAD Plastic Small Outline Package 3 x 3 mm Body ,0.65 mm Pitch, Exposed Pad; Supplier 1: Digi-Key; Supplier Part Number 1: 296-12413-5-ND; Supplier 2: Newark; Supplier Part Number 2: 74C7659; Supplier 3: Mouser; Supplier Part Number 3: 595-BQ24204DGN; Eco-Plan: Green (RoHS & no Sb/Br); Li-Polymer: Y; NiCd: N; NiMH: N; Over Voltage Protection: N; Mounting Technology: Surface Mount; Code_JEDEC: MO-187-AA-T; ComponentLink1Description: Datasheet; ComponentLink1URL: http://www.ti.com/general/docs/lit/getliterature.tsp?genericPartNumber=BQ24204&fileType=pdf
footprint DGN8-1760X1425TP_N (TSOP, 8-Leads, Body 3x3mm, Pitch 0.65mm, Thermal Pad 1.89x1.57mm, IPC Medium Density)
footprint DGN8-1760X1425TP_L (TSOP, 8-Leads, Body 3x3mm, Pitch 0.65mm, Thermal Pad 1.89x1.57mm, IPC High Density)
footprint DGN8-1760X1425TP_M (TSOP, 8-Leads, Body 3x3mm, Pitch 0.65mm, Thermal Pad 1.89x1.57mm, IPC Low Density)
pins: 1 IN (power) "Charge input voltage", 2 VCC (power) "VCC input", 3 N/C "No connection. Must be left floating", 4 VSS (power) "Ground input", 5 N/C "No connection. Must be left floating", 6 ~{CE} (in) "Charge enable input (active low)", 7 BAT (in) "Battery voltage sense input", 8 OUT (power) "Charge current output", 9 EP "Exposed pad"

## BQ24204DGNG4
designator U?
500 mA, 4.2 V Li-Ion Charger for Current-Limited App. in MSOP-8, 2.8 V, -40 to 85 degC, 8-pin MSOP-PowerPAD (DGN), Green (RoHS & no Sb/Br); PartNumber: BQ24204DGNG4; Manufacturer: Texas Instruments; Lead Acid: N; Li-Ion: Y; SubFamily: Battery Charge Management; Vin(Min)(V): 2.8; DatasheetVersion: SLUS501C; PackageVersion: revF, May-2011; PackageReference: DGN8-1760X1425TP; PackageDescription: 8-Pin PowerPAD Plastic Small Outline Package 3 x 3 mm Body ,0.65 mm Pitch, Exposed Pad; Supplier 1: Digi-Key; Supplier Part Number 1: BQ24204DGNG4-ND; Supplier 2: Newark; Supplier Part Number 2: 21M9460; Supplier 3: Mouser; Supplier Part Number 3: 595-BQ24204DGNG4; Eco-Plan: Green (RoHS & no Sb/Br); Li-Polymer: Y; NiCd: N; NiMH: N; Over Voltage Protection: N; Mounting Technology: Surface Mount; Code_JEDEC: MO-187-AA-T; ComponentLink1Description: Datasheet; ComponentLink1URL: http://www.ti.com/general/docs/lit/getliterature.tsp?genericPartNumber=BQ24204&fileType=pdf
footprint DGN8-1760X1425TP_N (TSOP, 8-Leads, Body 3x3mm, Pitch 0.65mm, Thermal Pad 1.89x1.57mm, IPC Medium Density)
footprint DGN8-1760X1425TP_L (TSOP, 8-Leads, Body 3x3mm, Pitch 0.65mm, Thermal Pad 1.89x1.57mm, IPC High Density)
footprint DGN8-1760X1425TP_M (TSOP, 8-Leads, Body 3x3mm, Pitch 0.65mm, Thermal Pad 1.89x1.57mm, IPC Low Density)
pins: 1 IN (power) "Charge input voltage", 2 VCC (power) "VCC input", 3 N/C "No connection. Must be left floating", 4 VSS (power) "Ground input", 5 N/C "No connection. Must be left floating", 6 ~{CE} (in) "Charge enable input (active low)", 7 BAT (in) "Battery voltage sense input", 8 OUT (power) "Charge current output", 9 EP "Exposed pad"

## BQ24204DGNR
designator U?
500 mA, 4.2 V Li-Ion Charger for Current-Limited App. in MSOP-8, 2.8 V, -40 to 85 degC, 8-pin MSOP-PowerPAD (DGN), Green (RoHS & no Sb/Br); PartNumber: BQ24204DGNR; Manufacturer: Texas Instruments; Lead Acid: N; Li-Ion: Y; SubFamily: Battery Charge Management; Vin(Min)(V): 2.8; DatasheetVersion: SLUS501C; PackageVersion: revF, May-2011; PackageReference: DGN8-1760X1425TP; PackageDescription: 8-Pin PowerPAD Plastic Small Outline Package 3 x 3 mm Body ,0.65 mm Pitch, Exposed Pad; Supplier 1: Digi-Key; Supplier Part Number 1: BQ24204DGNR-ND; Supplier 2: Newark; Supplier Part Number 2: 74C7660; Supplier 3: Mouser; Supplier Part Number 3: 595-BQ24204DGNR; Eco-Plan: Green (RoHS & no Sb/Br); Li-Polymer: Y; NiCd: N; NiMH: N; Over Voltage Protection: N; Mounting Technology: Surface Mount; Code_JEDEC: MO-187-AA-T; ComponentLink1Description: Datasheet; ComponentLink1URL: http://www.ti.com/general/docs/lit/getliterature.tsp?genericPartNumber=BQ24204&fileType=pdf
footprint DGN8-1760X1425TP_N (TSOP, 8-Leads, Body 3x3mm, Pitch 0.65mm, Thermal Pad 1.89x1.57mm, IPC Medium Density)
footprint DGN8-1760X1425TP_L (TSOP, 8-Leads, Body 3x3mm, Pitch 0.65mm, Thermal Pad 1.89x1.57mm, IPC High Density)
footprint DGN8-1760X1425TP_M (TSOP, 8-Leads, Body 3x3mm, Pitch 0.65mm, Thermal Pad 1.89x1.57mm, IPC Low Density)
pins: 1 IN (power) "Charge input voltage", 2 VCC (power) "VCC input", 3 N/C "No connection. Must be left floating", 4 VSS (power) "Ground input", 5 N/C "No connection. Must be left floating", 6 ~{CE} (in) "Charge enable input (active low)", 7 BAT (in) "Battery voltage sense input", 8 OUT (power) "Charge current output", 9 EP "Exposed pad"

## BQ24204DGNRG4
designator U?
500 mA, 4.2 V Li-Ion Charger for Current-Limited App. in MSOP-8, 2.8 V, -40 to 85 degC, 8-pin MSOP-PowerPAD (DGN), Green (RoHS & no Sb/Br); PartNumber: BQ24204DGNRG4; Manufacturer: Texas Instruments; Lead Acid: N; Li-Ion: Y; SubFamily: Battery Charge Management; Vin(Min)(V): 2.8; DatasheetVersion: SLUS501C; PackageVersion: revF, May-2011; PackageReference: DGN8-1760X1425TP; PackageDescription: 8-Pin PowerPAD Plastic Small Outline Package 3 x 3 mm Body ,0.65 mm Pitch, Exposed Pad; Supplier 1: Digi-Key; Supplier Part Number 1: BQ24204DGNRG4-ND; Supplier 2: Newark; Supplier Part Number 2: 53K9243; Supplier 3: Mouser; Supplier Part Number 3: 595-BQ24204DGNRG4; Eco-Plan: Green (RoHS & no Sb/Br); Li-Polymer: Y; NiCd: N; NiMH: N; Over Voltage Protection: N; Mounting Technology: Surface Mount; Code_JEDEC: MO-187-AA-T; ComponentLink1Description: Datasheet; ComponentLink1URL: http://www.ti.com/general/docs/lit/getliterature.tsp?genericPartNumber=BQ24204&fileType=pdf
footprint DGN8-1760X1425TP_N (TSOP, 8-Leads, Body 3x3mm, Pitch 0.65mm, Thermal Pad 1.89x1.57mm, IPC Medium Density)
footprint DGN8-1760X1425TP_L (TSOP, 8-Leads, Body 3x3mm, Pitch 0.65mm, Thermal Pad 1.89x1.57mm, IPC High Density)
footprint DGN8-1760X1425TP_M (TSOP, 8-Leads, Body 3x3mm, Pitch 0.65mm, Thermal Pad 1.89x1.57mm, IPC Low Density)
pins: 1 IN (power) "Charge input voltage", 2 VCC (power) "VCC input", 3 N/C "No connection. Must be left floating", 4 VSS (power) "Ground input", 5 N/C "No connection. Must be left floating", 6 ~{CE} (in) "Charge enable input (active low)", 7 BAT (in) "Battery voltage sense input", 8 OUT (power) "Charge current output", 9 EP "Exposed pad"

## BQ24205DGN
designator U?
500 mA, 4.1 V Li-Ion Charger for Current-Limited App. in MSOP-8, 2.8 V, -40 to 85 degC, 8-pin MSOP-PowerPAD (DGN), Green (RoHS & no Sb/Br); PartNumber: BQ24205DGN; Manufacturer: Texas Instruments; Lead Acid: N; Li-Ion: Y; SubFamily: Battery Charge Management; Vin(Min)(V): 2.8; DatasheetVersion: SLUS501C; PackageVersion: revF, May-2011; PackageReference: DGN8-1760X1425TP; PackageDescription: 8-Pin PowerPAD Plastic Small Outline Package 3 x 3 mm Body ,0.65 mm Pitch, Exposed Pad; Supplier 1: Digi-Key; Supplier Part Number 1: 296-12414-5-ND; Supplier 2: Newark; Supplier Part Number 2: 74C7661; Supplier 3: Mouser; Supplier Part Number 3: 595-BQ24205DGN; Eco-Plan: Green (RoHS & no Sb/Br); Li-Polymer: Y; NiCd: N; NiMH: N; Over Voltage Protection: N; Mounting Technology: Surface Mount; Code_JEDEC: MO-187-AA-T; ComponentLink1Description: Datasheet; ComponentLink1URL: http://www.ti.com/general/docs/lit/getliterature.tsp?genericPartNumber=BQ24205&fileType=pdf
footprint DGN8-1760X1425TP_N (TSOP, 8-Leads, Body 3x3mm, Pitch 0.65mm, Thermal Pad 1.89x1.57mm, IPC Medium Density)
footprint DGN8-1760X1425TP_L (TSOP, 8-Leads, Body 3x3mm, Pitch 0.65mm, Thermal Pad 1.89x1.57mm, IPC High Density)
footprint DGN8-1760X1425TP_M (TSOP, 8-Leads, Body 3x3mm, Pitch 0.65mm, Thermal Pad 1.89x1.57mm, IPC Low Density)
pins: 1 IN (power) "Charge input voltage", 2 VCC (power) "VCC input", 3 N/C "No connection. Must be left floating", 4 VSS (power) "Ground input", 5 N/C "No connection. Must be left floating", 6 ~{CE} (in) "Charge enable input (active low)", 7 BAT (in) "Battery voltage sense input", 8 OUT (power) "Charge current output", 9 EP "Exposed pad"

## BQ24205DGNG4
designator U?
500 mA, 4.1 V Li-Ion Charger for Current-Limited App. in MSOP-8, 2.8 V, -40 to 85 degC, 8-pin MSOP-PowerPAD (DGN), Green (RoHS & no Sb/Br); PartNumber: BQ24205DGNG4; Manufacturer: Texas Instruments; Lead Acid: N; Li-Ion: Y; SubFamily: Battery Charge Management; Vin(Min)(V): 2.8; DatasheetVersion: SLUS501C; PackageVersion: revF, May-2011; PackageReference: DGN8-1760X1425TP; PackageDescription: 8-Pin PowerPAD Plastic Small Outline Package 3 x 3 mm Body ,0.65 mm Pitch, Exposed Pad; Supplier 1: Digi-Key; Supplier Part Number 1: BQ24205DGNG4-ND; Supplier 2: Newark; Supplier Part Number 2: 99K1812; Supplier 3: Mouser; Supplier Part Number 3: 595-BQ24205DGNG4; Eco-Plan: Green (RoHS & no Sb/Br); Li-Polymer: Y; NiCd: N; NiMH: N; Over Voltage Protection: N; Mounting Technology: Surface Mount; Code_JEDEC: MO-187-AA-T; ComponentLink1Description: Datasheet; ComponentLink1URL: http://www.ti.com/general/docs/lit/getliterature.tsp?genericPartNumber=BQ24205&fileType=pdf
footprint DGN8-1760X1425TP_N (TSOP, 8-Leads, Body 3x3mm, Pitch 0.65mm, Thermal Pad 1.89x1.57mm, IPC Medium Density)
footprint DGN8-1760X1425TP_L (TSOP, 8-Leads, Body 3x3mm, Pitch 0.65mm, Thermal Pad 1.89x1.57mm, IPC High Density)
footprint DGN8-1760X1425TP_M (TSOP, 8-Leads, Body 3x3mm, Pitch 0.65mm, Thermal Pad 1.89x1.57mm, IPC Low Density)
pins: 1 IN (power) "Charge input voltage", 2 VCC (power) "VCC input", 3 N/C "No connection. Must be left floating", 4 VSS (power) "Ground input", 5 N/C "No connection. Must be left floating", 6 ~{CE} (in) "Charge enable input (active low)", 7 BAT (in) "Battery voltage sense input", 8 OUT (power) "Charge current output", 9 EP "Exposed pad"

## BQ24210DQCR
designator U?
800 mA, Single-Input, Single Cell Li-Ion Solar Battery Charger, 3.5 V, -40 to 85 degC, 10-pin WSON (DQC), Green (RoHS & no Sb/Br); PartNumber: BQ24210DQCR; Manufacturer: Texas Instruments; Lead Acid: N; SubFamily: Battery Charge Management; Vin(Min)(V): 3.5; DatasheetVersion: SLUSA76A; PackageVersion: revA, Jul-2008; PackageReference: DQC10-2400X840TP; PackageDescription: 10-Pin Plastic Small Outline No-Lead, 2 x 3 x 0.8 mm Body, 0.5 mm Pitch, Exposed Pad; Supplier 1: Digi-Key; Supplier Part Number 1: BQ24210DQCR-ND; Supplier 2: Newark; Supplier Part Number 2: 56T0490; Supplier 3: Mouser; Supplier Part Number 3: 595-BQ24210DQCR; Eco-Plan: Green (RoHS & no Sb/Br); Li-Ion: N; Li-Polymer: N; NiCd: N; NiMH: N; Over Voltage Protection: N; Mounting Technology: Surface Mount; ComponentLink1Description: Datasheet; ComponentLink1URL: http://www.ti.com/general/docs/lit/getliterature.tsp?genericPartNumber=BQ24210&fileType=pdf
footprint DQC10-2400X840TP (SON, 10-Leads, Body 2x3mm, Pitch 0.5mm, Thermal Pad 2.4x0.84mm)
pins: 1 VBUS (power) "For Charging Mode, input for charging source, connect to external DC supply (ie, Solar Panel, Inductive charging PAD, or Wall Adapter) For Load Mode, output for current limited battery voltage. Expected range of bypass (See Datasheet)", 2 ISET (in) "Programs the Fast-charge current setting. External resistor from ISET to VSS defines fast charge current value.", 3 VSS (power) "Ground terminal.", 4 VTSB "TS bias reference voltage pin, regulated output. No external capacitor is required from VTSB to VSS. Only enabled during charge.", 5 TS (in) "Temperature sense pin, connected to NTC Thermistor in the battery pack. Pulling High puts part in Limited Power charging mode. Must not be left floating.", 6 ~{PG} (hiz) "Power Present indication. LOW (FET ON) When input voltage is in normal range (VBUS>BAT and VBUS>UVLO), High impedance (open drain FET OFF) in other cases.", 7 ~{EN} (in) "Chip enable control. Low to enable Charge or Load Mode, and High to enable Suspend mode.", 8 ~{CHG} (hiz) "Charge Status indication, Low (FET ON) indicates charging, and High impedance (open drain FET OFF) in other cases", 9 VDPM "Programs the input voltage regulation threshold. Expected range of programming resistor is 1 k ohm to 10 k ohm, connected from VDPM to VSS. When VDPM is floating, the VIN DPM loop operates in battery tracking mode, and the (See Datasheet)", 10 BAT (power) "Battery Connection. System Load may be connected. Expected range of bypass capacitors 1 uF to 10 uF, connected from BAT to VSS.", 11 EP (power) "There is an internal electrical connection between the exposed thermal pad and the VSS pin of the device. The thermal pad must be connected to the same potential as the VSS pin on the printed circuit board. Do not use the (See Datasheet)"

## BQ24210DQCT
designator U?
800 mA, Single-Input, Single Cell Li-Ion Solar Battery Charger, 3.5 V, -40 to 85 degC, 10-pin WSON (DQC), Green (RoHS & no Sb/Br); PartNumber: BQ24210DQCT; Manufacturer: Texas Instruments; Lead Acid: N; SubFamily: Battery Charge Management; Vin(Min)(V): 3.5; DatasheetVersion: SLUSA76A; PackageVersion: revA, Jul-2008; PackageReference: DQC10-2400X840TP; PackageDescription: 10-Pin Plastic Small Outline No-Lead, 2 x 3 x 0.8 mm Body, 0.5 mm Pitch, Exposed Pad; Supplier 1: Digi-Key; Supplier Part Number 1: 296-28738-2-ND; Supplier 2: Digi-Key; Supplier Part Number 2: 296-28738-1-ND; Supplier 3: Digi-Key; Supplier Part Number 3: 296-28738-6-ND; Supplier 4: Farnell; Supplier Part Number 4: 1903633; Supplier 5: Farnell; Supplier Part Number 5: 2119434; Supplier 6: Newark; Supplier Part Number 6: 56T0491; Supplier 7: Mouser; Supplier Part Number 7: 595-BQ24210DQCT; Eco-Plan: Green (RoHS & no Sb/Br); Li-Ion: N; Li-Polymer: N; NiCd: N; NiMH: N; Over Voltage Protection: N; Mounting Technology: Surface Mount; ComponentLink1Description: Datasheet; ComponentLink1URL: http://www.ti.com/general/docs/lit/getliterature.tsp?genericPartNumber=BQ24210&fileType=pdf
footprint DQC10-2400X840TP (SON, 10-Leads, Body 2x3mm, Pitch 0.5mm, Thermal Pad 2.4x0.84mm)
pins: 1 VBUS (power) "For Charging Mode, input for charging source, connect to external DC supply (ie, Solar Panel, Inductive charging PAD, or Wall Adapter) For Load Mode, output for current limited battery voltage. Expected range of bypass (See Datasheet)", 2 ISET (in) "Programs the Fast-charge current setting. External resistor from ISET to VSS defines fast charge current value.", 3 VSS (power) "Ground terminal.", 4 VTSB "TS bias reference voltage pin, regulated output. No external capacitor is required from VTSB to VSS. Only enabled during charge.", 5 TS (in) "Temperature sense pin, connected to NTC Thermistor in the battery pack. Pulling High puts part in Limited Power charging mode. Must not be left floating.", 6 ~{PG} (hiz) "Power Present indication. LOW (FET ON) When input voltage is in normal range (VBUS>BAT and VBUS>UVLO), High impedance (open drain FET OFF) in other cases.", 7 ~{EN} (in) "Chip enable control. Low to enable Charge or Load Mode, and High to enable Suspend mode.", 8 ~{CHG} (hiz) "Charge Status indication, Low (FET ON) indicates charging, and High impedance (open drain FET OFF) in other cases", 9 VDPM "Programs the input voltage regulation threshold. Expected range of programming resistor is 1 k ohm to 10 k ohm, connected from VDPM to VSS. When VDPM is floating, the VIN DPM loop operates in battery tracking mode, and the (See Datasheet)", 10 BAT (power) "Battery Connection. System Load may be connected. Expected range of bypass capacitors 1 uF to 10 uF, connected from BAT to VSS.", 11 EP (power) "There is an internal electrical connection between the exposed thermal pad and the VSS pin of the device. The thermal pad must be connected to the same potential as the VSS pin on the printed circuit board. Do not use the (See Datasheet)"